# Altium schematic symbol library QUIKEVAL_HEADER.SchLib: 1 symbol
Pins are listed as number, name and electrical type; pins without a type are passive.

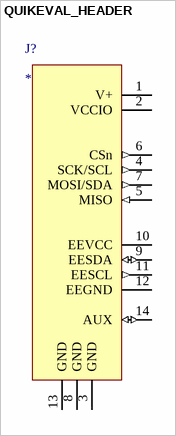
[diagram p0: symbol QUIKEVAL_HEADER]

## QUIKEVAL_HEADER
designator J?
2x7 2mm Header With LTC QuikEval Pinout
pins: 1 V+ (power), 2 VCCIO (power), 3 GND (power), 4 SCK/SCL (out), 5 MISO (in), 6 CSn (out), 7 MOSI/SDA (out), 8 GND (power), 9 EESDA (io), 10 EEVCC (power), 11 EESCL (out), 12 EEGND (power), 13 GND (power), 14 AUX (io)